# Altium footprint library Components.PcbLib: 163 footprints (part 9 of 11)
Each footprint in its own frame and in the unit in brackets; x right, y up, seen from the top. Pads: shape width x height; smd on the part's side, far side on the other; paste and mask are expansions set on the pad; w line width, h text height; cw(c..) or ccw(c..) is an arc to the next point about the centre after c.
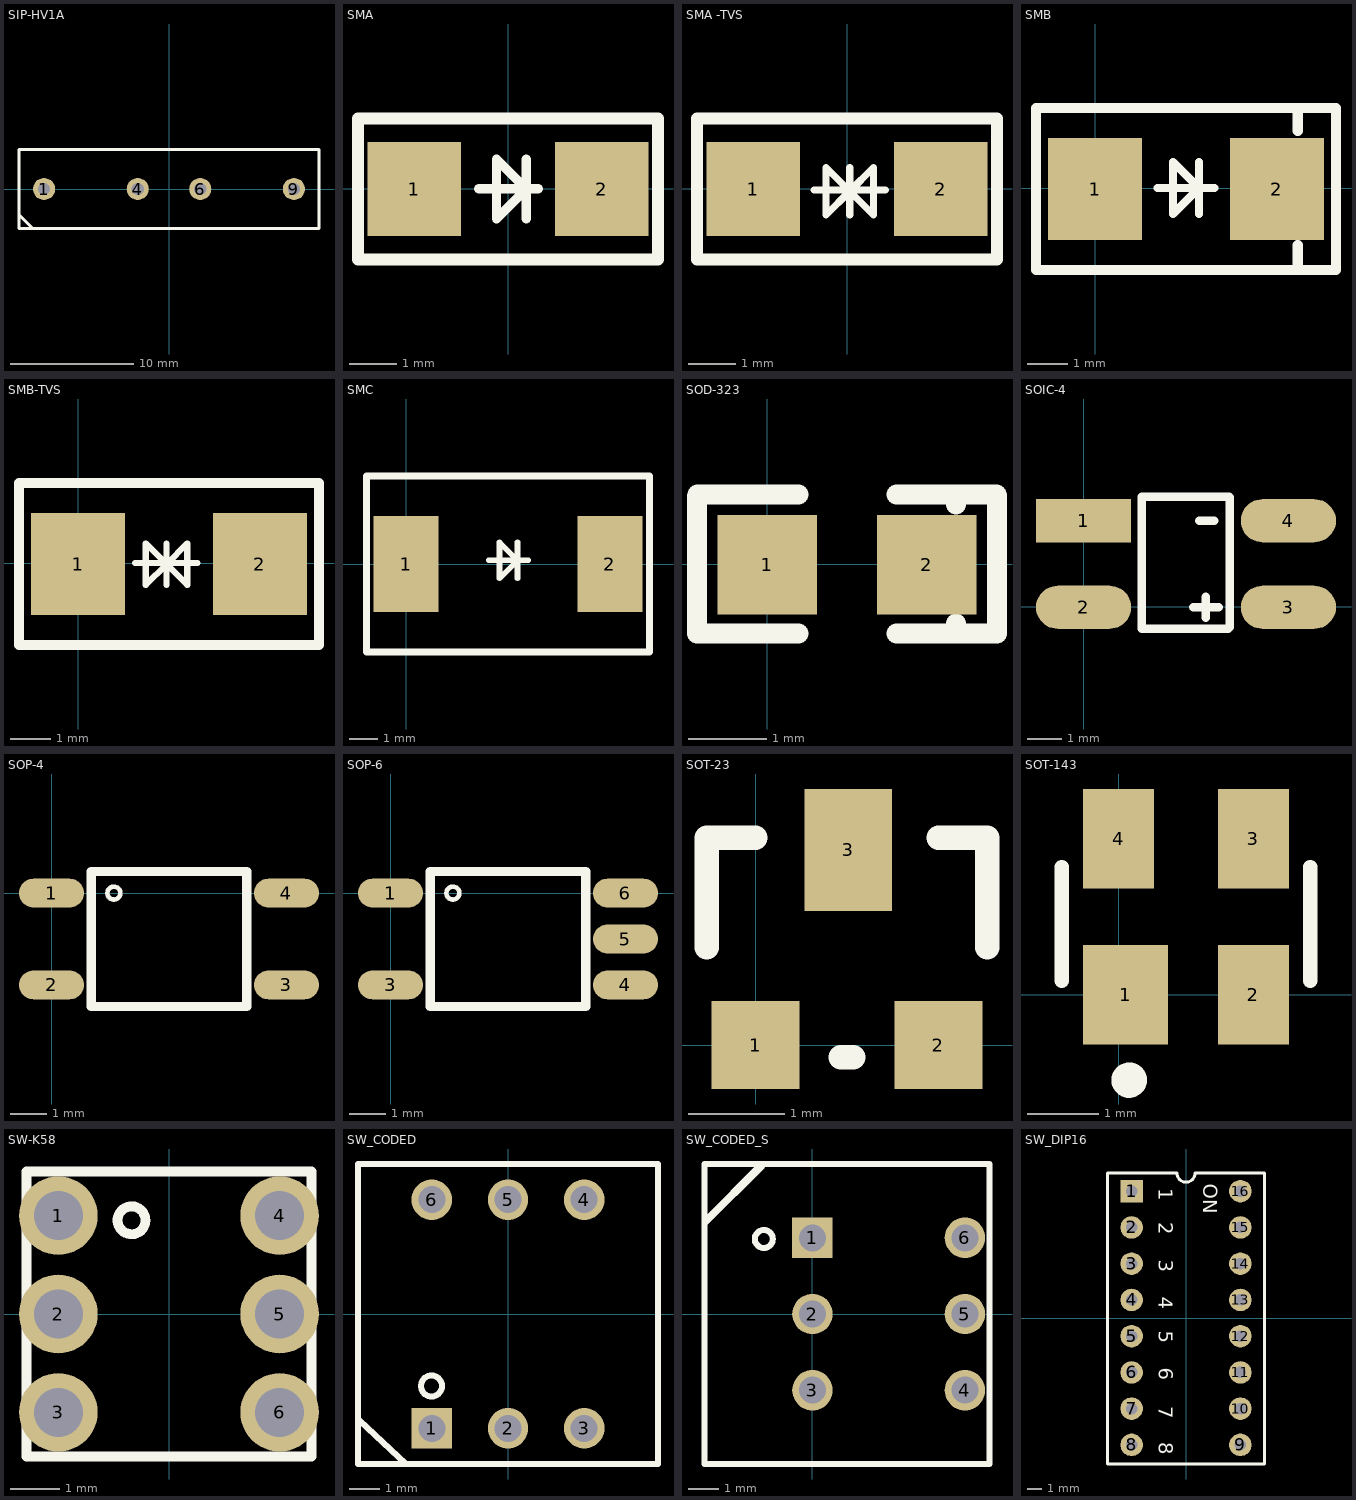
[diagram p8: the footprints below, top view; thin cyan lines are the x and y axes]

## SIP-HV1A [mm] "SIP-HV1A12"
pads (4):
  round 1.8 hole 1: 1(-10.16,0) 4(-2.54,0) 6(2.54,0) 9(10.16,0)
Top Overlay:
  lines w0.254: -12.2,-2 -12.2,-2.1 -11.1,-3.2 ; -12.2,-3.2 12.2,-3.2 12.2,3.2 -12.2,3.2 -12.2,-3.2

## SMA [mm] "5.28*2.90mm"
pads (2):
  rect 2x2 smd: 1(-2.008,-0.002) 2(1.992,-0.002)
Top Overlay:
  lines w0.2: -0.635,0 0.635,0 ; 0.381,-0.635 0.381,0.635 ; -0.254,-0.635 0.381,0 -0.254,0.635 -0.254,-0.635
  lines w0.254: -3.208,-1.502 -3.208,1.498 3.192,1.498 3.192,-1.502 -3.208,-1.502

## SMA -TVS [mm] "5.28*2.90mm"
pads (2):
  rect 2x2 smd: 1(-2.008,-0.002) 2(1.992,-0.002)
Top Overlay:
  lines w0.152: 0.051,-0.559 0.051,0.457 ; -0.457,-0.559 0.051,-0.051 0.559,0.457 0.559,-0.559 -0.457,0.457 -0.457,-0.559
  lines w0.154: -0.714,-0.026 0.81,-0.026
  lines w0.254: -3.208,-1.502 -3.208,1.498 3.192,1.498 3.192,-1.502 -3.208,-1.502

## SMB [mm]
pads (2):
  rect 2.3x2.5 smd: 1(-0.001,-0.022) 2(4.444,-0.022)
Top Overlay:
  lines w0.2: 1.524,0.002 2.921,0.002 ; 2.54,-0.633 2.54,0.637 ; 1.905,-0.633 2.54,0.002 1.905,0.637 1.905,-0.633
  lines w0.254: 4.953,-2.003 4.953,-1.397 ; 4.953,1.397 4.953,1.959 ; -1.449,-2.003 -1.449,1.959 5.892,1.959 5.892,-2.003 -1.449,-2.003

## SMB-TVS [mm]
pads (2):
  rect 2.3x2.5 smd: 1(-0.001,-0.022) 2(4.444,-0.022)
Top Overlay:
  lines w0.152: 2.162,-0.534 2.162,0.482 ; 1.654,-0.534 1.654,0.482 2.67,-0.534 2.67,0.482 2.162,-0.026 1.654,-0.534
  lines w0.154: 1.397,0 2.921,0
  lines w0.254: -1.449,-2.003 5.892,-2.003 5.892,1.959 -1.449,1.959 -1.449,-2.003

## SMC [mm] "8.13*6.22"
pads (2):
  rect 2.3x3.4 smd: 1(0,0) 2(7.2,0)
Top Overlay:
  lines w0.2: 2.921,0.129 4.318,0.129 ; 3.937,-0.506 3.937,0.764 ; 3.302,-0.506 3.937,0.129 3.302,0.764 3.302,-0.506
  lines w0.254: -1.397,-3.11 -1.397,3.11 8.6,3.11 8.6,-3.11 -1.397,-3.11

## SOD-323 [mm] "2.6*1.35mm"
pads (2):
  rect 1.27x1.27 smd: 1(0.003,-0.008) 2(2.035,-0.008)
Top Overlay:
  lines w0.254: -0.897,-0.889 -0.897,0.87 ; -0.889,-0.889 0.4,-0.889 ; -0.889,0.889 0.4,0.889 ; 1.65,-0.889 2.93,-0.889 ; 1.65,0.889 2.93,0.889 ; 2.413,-0.889 2.413,-0.762 ; 2.413,0.762 2.413,0.889 ; 2.935,-0.886 2.935,0.875

## SOIC-4 [mil]
pads (4):
  rect 110x50 smd: 1(-0.02,99.57)
  oval 110x50 smd: 2(-0.02,-0.43) 3(236.64,-0.43) 4(236.64,99.57)
Top Overlay:
  lines w10: 126.98,-0.43 155.98,-0.43 ; 133.98,99.57 150.98,99.57 ; 140.98,-12.43 140.98,11.57 ; 166.98,-25.43 66.98,-25.43 66.98,127.46 168.08,127.46 ; 168.98,-23.43 168.98,126.57

## SOP-4 [mm]
pads (4):
  oval 1.8x0.8 smd: 1(0,0) 2(0,-2.54) 3(6.5,-2.54) 4(6.5,0)
Top Overlay:
  circle w0.127: c1.725,0 r0.18
  lines w0.254: 1.1,-3.14 1.1,0.6 5.4,0.6 5.4,-3.14 1.1,-3.14

## SOP-6 [mm]
pads (5):
  oval 1.8x0.8 smd: 1(0,0) 3(0,-2.54) 4(6.5,-2.54) 5(6.5,-1.27) 6(6.5,0)
Top Overlay:
  circle w0.127: c1.725,0 r0.18
  lines w0.254: 1.1,-3.14 5.4,-3.14 5.4,0.6 1.1,0.6 1.1,-3.14

## SOT-23 [mil]
pads (3):
  rect 36x36 smd: 1(0,0) 2(75,0)
  rect 36x50 smd: 3(38,80)
Top Overlay:
  lines w10: -20,40 -20,85 0,85 ; 35,-5 40,-5 ; 75,85 95,85 95,40

## SOT-143 [mm]
pads (4):
  rect 1.2x1.4 smd: 1(0.1,0)
  rect 1x1.4 smd: 2(1.9,0) 3(1.9,2.2) 4(0,2.2)
Top Overlay:
  circle w0.25: c0.15,-1.2 r0.125
  lines w0.2: -0.8,0.2 -0.8,1.8 ; 2.7,0.2 2.7,1.8

## SW-K58 [mm] "SW-K58"
pads (6):
  round 1.6 hole 1: 1(-2.25,2) 2(-2.25,0) 3(-2.25,-2) 4(2.25,2) 5(2.25,0) 6(2.25,-2)
Top Overlay:
  circle w0.2: c-0.762,1.905 r0.284
  lines w0.2: -2.9,-2.9 2.9,-2.9 2.9,2.9 -2.9,2.9 -2.9,-2.9

## SW_CODED [mm] "Rotary Coded Switch"
pads (6):
  rect 1.35x1.35 hole 0.9: 1(-2.54,-3.81)
  round 1.35 hole 0.9: 2(0,-3.81) 3(2.54,-3.81) 4(2.54,3.81) 5(0,3.81) 6(-2.54,3.81)
Top Overlay:
  circle w0.2: c-2.55,-2.4 r0.35
  lines w0.2: -5,-5 5,-5 5,5 -5,5 -5,-4.97 ; -4.953,-3.55 -3.4,-5

## SW_CODED_S [mm]
pads (6):
  rect 1.35x1.35 hole 0.9: 1(0,2.54)
  round 1.35 hole 0.9: 2(0,0) 3(0,-2.54) 4(5.08,-2.54) 5(5.08,0) 6(5.08,2.54)
Top Overlay:
  circle w0.2: c-1.624,2.5 r0.3
  lines w0.2: -3.6,-5 5.9,-5 5.9,5 -3.6,5 -3.6,-5
  lines w0.254: -3.575,3.075 -1.7,4.95

## SW_DIP16 [mil]
pads (16):
  rect 62x62 hole 31.5: 1(-150,350)
  round 62 hole 31.5: 2(-150,250) 3(-150,150) 4(-150,50) 5(-150,-50) 6(-150,-150) 7(-150,-250) 8(-150,-350) 9(150,-350) 10(150,-250) 11(150,-150) 12(150,-50) 13(150,50) 14(150,150) 15(150,250) 16(150,350)
Top Overlay:
  lines w8: -216.93,-402.76 216.93,-402.76 216.93,400 25,400 cw(c0,400) -25,400 -216.93,400 -216.93,-402.76
  text "1" at -74.8,358.27 h39.37
  text "2" at -74.8,263.78 h39.37
  text "3" at -74.8,161.42 h39.37
  text "4" at -74.8,59.06 h39.37
  text "5" at -74.8,-35.43 h39.37
  text "6" at -74.8,-137.8 h39.37
  text "7" at -74.8,-244.09 h39.37
  text "8" at -74.8,-342.52 h39.37
  text "ON" at 47.24,370.08 h39.37